# Altium footprint library con-hirose.PCBLIB: 38 footprints (part 3 of 3)
Each footprint in its own frame and in the unit in brackets; x right, y up, seen from the top. Pads: shape width x height; smd on the part's side, far side on the other; paste and mask are expansions set on the pad; w line width, h text height; cw(c..) or ccw(c..) is an arc to the next point about the centre after c.
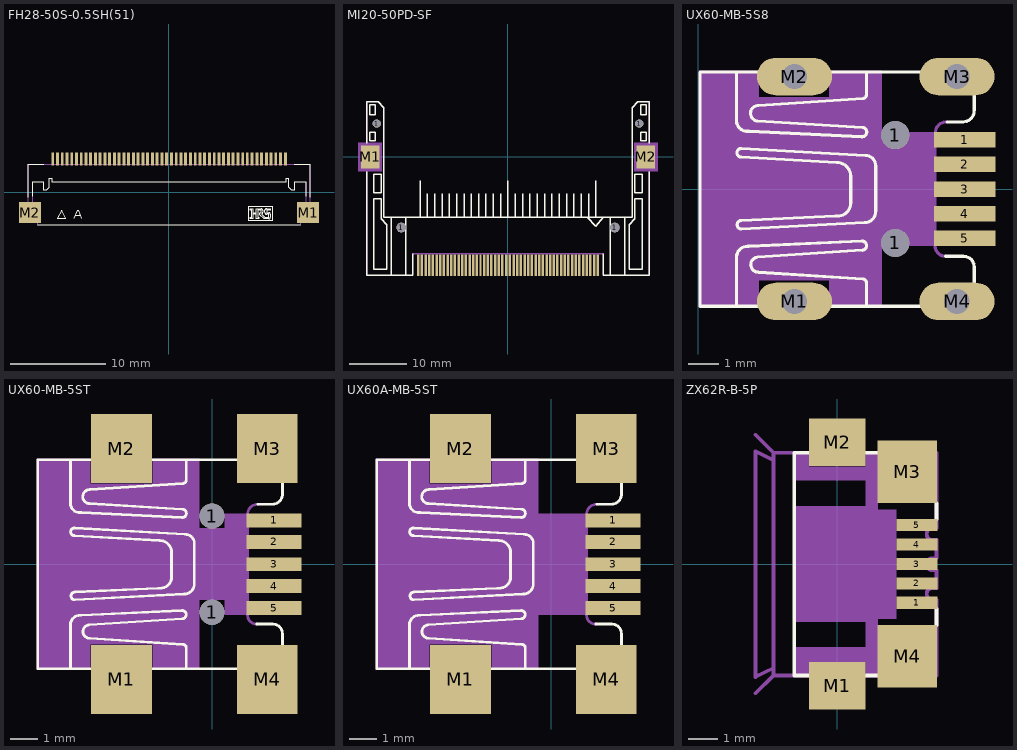
[diagram p2: the footprints below, top view; thin cyan lines are the x and y axes]

## FH28-50S-0.5SH(51) [mil]
pads (52):
  rect 12x52 smd: 1(-482.28,138) 2(-462.6,138) 3(-442.91,138) 4(-423.23,138) 5(-403.54,138) 6(-383.86,138) 7(-364.17,138) 8(-344.49,138) 9(-324.8,138) 10(-305.12,138) 11(-285.43,138) 12(-265.75,138) 13(-246.06,138) 14(-226.38,138) 15(-206.69,138) 16(-187.01,138) 17(-167.32,138) 18(-147.64,138) 19(-127.95,138) 20(-108.27,138) 21(-88.58,138) 22(-68.9,138) 23(-49.21,138) 24(-29.53,138) 25(-9.84,138) 26(10,138) 27(30,138) 28(50,138) 29(69,138) 30(89,138) 31(109,138) 32(128,138) 33(148,138) 34(168,138) 35(188,138) 36(207,138) 37(227,138) 38(247,138) 39(266,138) 40(286,138) 41(306,138) 42(325,138) 43(345,138) 44(365,138) 45(384,138) 46(404,138) 47(424,138) 48(443,138) 49(463,138) 50(483,138)
  rect 91x87 smd: M1(577,-84.65) M2(-576.77,-84.65)
Top Overlay:
  lines w4: -584.3,-20.22 -584.3,117 -519.15,117 ; -568.01,-17.24 -568.01,42 -520.22,42 -520.22,9 -508.28,9 -499.59,18 -499.59,56 -484.38,56 -484.38,42 484,42 484,56 498,56 498,20 509,9 520,9 520,42 569,42 569,-17.24 ; -545.2,-136.98 545,-136.98 ; -392.48,-107.65 -378.36,-73.98 -377.27,-73.98 -363.15,-107.65 ; -387.04,-96.79 -368.58,-96.79 ; 519,117 584,117 584,-20.22 ; -464.16,-108.74 -428.31,-108.74 -445.69,-73.98 -464.16,-108.74 ; 331,-118.52 429,-118.52 429,-58.78 331,-58.78 331,-118.52 ; 338,-110.91 338,-104.39 343,-104.39 343,-73.98 338,-73.98 338,-68.56 348,-68.56 348,-84.85 362,-84.85 362,-68.56 383,-68.56 cw(c382.75,-74.81) 389,-75.07 389,-83.76 cw(c381.2,-83.97) 387,-89.19 cw(c362.19,-67.36) 386,-90.28 385,-91.36 398,-104.39 415,-104.39 415,-91.36 406,-91.36 cw(c405.8,-83.57) 398,-83.76 398,-75.07 cw(c404.75,-75.31) 405,-68.56 421,-68.56 421,-73.98 405,-73.98 405,-84.85 414,-84.85 cw(c414.25,-91.6) 421,-91.36 421,-104.39 cw(c414.24,-104.15) 414,-110.91 396,-110.91 377,-92.45 377,-84.85 383,-84.85 383,-73.98 368,-73.98 368,-104.39 373,-104.39 373,-110.91 362,-110.91 362,-91.36 348,-91.36 348,-110.91 338,-110.91
Top Solder:
  rectangle: -390.75,-26.57 -376.97,27
  rectangle: -371.06,-26.57 -357.28,27
  rectangle: -351.38,-26.57 -337.6,27
  rectangle: -331.69,-26.57 -317.91,27
  rectangle: -312.01,-26.57 -298.23,27
  rectangle: -292.32,-26.57 -278.54,27
  rectangle: -272.64,-26.57 -258.86,27
  rectangle: -252.95,-26.57 -239.17,27
  rectangle: -233.27,-26.57 -219.49,27
  rectangle: -213.58,-26.57 -199.8,27
  rectangle: -193.9,-26.57 -180.12,27
  rectangle: -174.21,-26.57 -160.43,27
  rectangle: -154.53,-26.57 -140.75,27
  rectangle: -134.84,-26.57 -121.06,27
  rectangle: -115.16,-26.57 -101.38,27
  rectangle: -95.47,-26.57 -81.69,27
  rectangle: -75.79,-26.57 -62.01,27
  rectangle: -56.1,-26.57 -42.32,27
  rectangle: -36.42,-26.57 -22.64,27
  rectangle: -16.73,-26.57 -2.95,27
  rectangle: 3,-26.57 17,27
  rectangle: 23,-26.57 37,27
  rectangle: 43,-26.57 57,27
  rectangle: 63,-26.57 76,27
  rectangle: 82,-26.57 96,27
  rectangle: 102,-26.57 116,27
  rectangle: 122,-26.57 135,27
  rectangle: 141,-26.57 155,27
  rectangle: 161,-26.57 175,27
  rectangle: 181,-26.57 194,27
  rectangle: 200,-26.57 214,27
  rectangle: 220,-26.57 234,27
  rectangle: 240,-26.57 253,27
  rectangle: 259,-26.57 273,27
  rectangle: 279,-26.57 293,27
  rectangle: 299,-26.57 313,27
  rectangle: 318,-26.57 332,27
  rectangle: 338,-26.57 352,27
  rectangle: 358,-26.57 372,27
  rectangle: 377,-26.57 391,27
Mechanical 2:
  text ">NAME" at -531.5,-196.85 h77.5
Mechanical 4:
  text ">VALUE" at -118.11,-196.85 h77.5
Mechanical 16:
  region: 487,116 487,144 479,144 479,116
  region: 467,116 467,144 459,144 459,116
  region: 447.5,116.5 447.5,143.5 439.5,143.5 439.5,116.5
  region: 428,116 428,144 420,144 420,116
  region: 408,116 408,144 400,144 400,116
  region: 388.5,116.5 388.5,143.5 380.5,143.5 380.5,116.5
  region: 368.5,116.5 368.5,143.5 360.5,143.5 360.5,116.5
  region: 349,116 349,144 341,144 341,116
  region: 329.5,116.5 329.5,143.5 321.5,143.5 321.5,116.5
  region: 309.5,116.5 309.5,143.5 301.5,143.5 301.5,116.5
  region: 290,116 290,144 282,144 282,116
  region: 270,116 270,144 262,144 262,116
  region: 250.5,116.5 250.5,143.5 242.5,143.5 242.5,116.5
  region: 231,116 231,144 223,144 223,116
  region: 211,116 211,144 203,144 203,116
  region: 191.5,116.5 191.5,143.5 183.5,143.5 183.5,116.5
  region: 172,116 172,144 164,144 164,116
  region: 152,116 152,144 144,144 144,116
  region: 132.5,116.5 132.5,143.5 124.5,143.5 124.5,116.5
  region: 113,116 113,144 105,144 105,116
  region: 93,116 93,144 85,144 85,116
  region: 73.5,116.5 73.5,143.5 65.5,143.5 65.5,116.5
  region: 53.5,116.5 53.5,143.5 45.5,143.5 45.5,116.5
  region: 34,116 34,144 26,144 26,116
  region: 14.03,116.03 14.03,143.97 6.03,143.97 6.03,116.03
  region: -5.81,116.19 -5.81,143.81 -13.81,143.81 -13.81,116.19
  region: -25.53,116.22 -25.53,143.78 -33.53,143.78 -33.53,116.22
  region: -45.21,116.22 -45.21,143.78 -53.21,143.78 -53.21,116.22
  region: -64.9,116.22 -64.9,143.78 -72.9,143.78 -72.9,116.22
  region: -84.58,116.22 -84.58,143.78 -92.58,143.78 -92.58,116.22
  region: -104.27,116.22 -104.27,143.78 -112.27,143.78 -112.27,116.22
  region: -123.95,116.22 -123.95,143.78 -131.95,143.78 -131.95,116.22
  region: -143.64,116.22 -143.64,143.78 -151.64,143.78 -151.64,116.22
  region: -163.32,116.22 -163.32,143.78 -171.32,143.78 -171.32,116.22
  region: -183.01,116.22 -183.01,143.78 -191.01,143.78 -191.01,116.22
  region: -202.69,116.22 -202.69,143.78 -210.69,143.78 -210.69,116.22
  region: -222.38,116.22 -222.38,143.78 -230.38,143.78 -230.38,116.22
  region: -242.06,116.22 -242.06,143.78 -250.06,143.78 -250.06,116.22
  region: -261.75,116.22 -261.75,143.78 -269.75,143.78 -269.75,116.22
  region: -281.43,116.22 -281.43,143.78 -289.43,143.78 -289.43,116.22
  region: -301.12,116.22 -301.12,143.78 -309.12,143.78 -309.12,116.22
  region: -320.8,116.22 -320.8,143.78 -328.8,143.78 -328.8,116.22
  region: -340.49,116.22 -340.49,143.78 -348.49,143.78 -348.49,116.22
  region: -360.17,116.22 -360.17,143.78 -368.17,143.78 -368.17,116.22
  region: -379.86,116.22 -379.86,143.78 -387.86,143.78 -387.86,116.22
  region: -399.54,116.22 -399.54,143.78 -407.54,143.78 -407.54,116.22
  region: -419.23,116.22 -419.23,143.78 -427.23,143.78 -427.23,116.22
  region: -438.91,116.22 -438.91,143.78 -446.91,143.78 -446.91,116.22
  region: -458.6,116.22 -458.6,143.78 -466.6,143.78 -466.6,116.22
  region: -478.28,116.22 -478.28,143.78 -486.28,143.78 -486.28,116.22
  lines w4: -568.01,42 -568.01,-56.61 -547.37,-56.61 ; -546.29,-105.48 -577.78,-105.48 cw(c-577.78,-98.96) -584.3,-98.96 -584.3,117 584,117 584,-98.96 cw(c577.24,-98.72) 577,-105.48 545,-105.48 ; -545.2,-136.98 -545.2,-42.49 ; 545,-136.98 545,-105.48 ; 545,-42.49 545,-56.6 ; 569,42 569,-56.61 545,-56.6 ; 545,-105.48 545,-56.6

## MI20-50PD-SF [mil]
pads (56):
  round 56 hole 56: 1(-895.67,227) 1(896,227)
  round 66 hole 66: 1(-728.35,-482.28) 1(729,-482.28)
  rect 17x148 smd: 1(613,-739.37) 2(563,-739.37) 3(513,-739.37) 4(463,-739.37) 5(413,-739.37) 6(363,-739.37) 7(313,-739.37) 8(263,-739.37) 9(213,-739.37) 10(163,-739.37) 11(113,-739.37) 12(63,-739.37) 13(13,-739.37) 14(-37.5,-739.37) 15(-87.5,-739.37) 16(-137.5,-739.37) 17(-187.5,-739.37) 18(-237.5,-739.37) 19(-287.5,-739.37) 20(-337.5,-739.37) 21(-387.5,-739.37) 22(-437.5,-739.37) 23(-487.5,-739.37) 24(-537.5,-739.37) 25(-587.5,-739.37) 26(588,-739.37) 27(538,-739.37) 28(488,-739.37) 29(438,-739.37) 30(388,-739.37) 31(338,-739.37) 32(288,-739.37) 33(238,-739.37) 34(188,-739.37) 35(138,-739.37) 36(88,-739.37) 37(38,-739.37) 38(-12.5,-739.37) 39(-62.5,-739.37) 40(-112.5,-739.37) 41(-162.5,-739.37) 42(-212.5,-739.37) 43(-262.5,-739.37) 44(-312.5,-739.37) 45(-362.5,-739.37) 46(-412.5,-739.37) 47(-462.5,-739.37) 48(-512.5,-739.37) 49(-562.5,-739.37) 50(-612.5,-739.37)
  rect 126x158 smd: M1(-940.26,-0.2) M2(941,-0.2)
Top Overlay:
  lines w10: -964.57,-100.98 -964.57,-807.09 -797.24,-807.09 ; -964.57,93 -964.57,375 -885.83,375 -846.46,335 -846.46,-413.39 -797.24,-413.39 ; -649.61,-659.45 -649.61,-807.09 -698.82,-807.09 ; -600,-414.37 -600,-164.37 ; -550,-414.37 -550,-251.87 ; -500,-414.37 -500,-251.87 ; -450,-414.37 -450,-251.87 ; -400,-414.37 -400,-251.87 ; -350,-414.37 -350,-251.87 ; -300,-414.37 -300,-251.87 ; -250,-414.37 -250,-251.87 ; -200,-414.37 -200,-251.87 ; -150,-414.37 -150,-251.87 ; -100,-414.37 -100,-251.87 ; -50,-414.37 -50,-251.87 ; 0,-414.37 0,-164.37 ; 50,-414.37 50,-251.87 ; 100,-414.37 100,-251.87 ; 150,-414.37 150,-251.87 ; 200,-414.37 200,-251.87 ; 250,-414.37 250,-251.87 ; 300,-414.37 300,-251.87 ; 350,-414.37 350,-251.87 ; 400,-414.37 400,-251.87 ; 450,-414.37 450,-251.87 ; 500,-414.37 500,-251.87 ; 541,-412.5 600,-472.34 650,-412.5 ; 550,-414.37 550,-251.87 ; 600,-414.37 600,-164.37 ; 650,-659.45 650,-807.09 699,-807.09 ; 965,-100.98 965,-807.09 798,-807.09 ; 965,93 965,375 886,375 847,335 847,-413.39 798,-413.39 ; -797.24,-807.09 -698.82,-807.09 ; -797.24,-807.09 -797.24,-413.39 ; -797.24,-413.39 -698.82,-413.39 ; -698.82,-807.09 -698.82,-413.39 ; -698.82,-413.39 699,-413.39 ; 699,-807.09 798,-807.09 ; 699,-807.09 699,-413.39 ; 699,-413.39 798,-413.39 ; 798,-807.09 798,-413.39 ; -944.88,109 -905.51,109 -905.51,168 -944.88,168 -944.88,109 ; -944.88,286 -905.51,286 -905.51,355 -944.88,355 -944.88,286 ; -915.35,-767.72 -826.77,-767.72 -826.77,-462.6 -866.14,-423.23 -866.14,-285.43 -915.35,-285.43 -915.35,-767.72 ; -915.35,-246.06 -866.14,-246.06 -866.14,-118.11 -915.35,-118.11 -915.35,-246.06 ; 827,-767.72 827,-462.6 867,-423.23 867,-285.43 916,-285.43 916,-767.72 827,-767.72 ; 867,-246.06 916,-246.06 916,-118.11 867,-118.11 867,-246.06 ; 906,109 906,168 945,168 945,109 906,109 ; 906,286 945,286 945,355 906,355 906,286
Top Solder:
  rectangle: -1016.78,-87.5 -866.78,88
  rectangle: 869,-87.5 1013,88
Mechanical 2:
  text ">NAME" at -150,-100 h108.5
Mechanical 4:
  text ">VALUE" at -600,-550 h108.5
Mechanical 8:
  rectangle: -1023.62,-98.43 -858.27,99
  rectangle: 859,-98.43 1024,99
Mechanical 13:
  text "MI20-50PD-SF" at -226.38,-561.02 h77.5
Mechanical 16:
  lines w10: -964.57,-807.09 -964.57,375 ; -649.61,-659.45 650,-659.45 ; 965,-807.09 965,375
Mechanical 27:
  rectangle: -1023.62,-98.43 -858.27,99
  rectangle: 859,-98.43 1024,99

## UX60-MB-5S8 [mil]
pads (11):
  round 36 hole 36: 1(252,-68.9) 1(252,69)
  rect 79x20 smd: 1(341,63) 2(341,32) 3(341,0) 4(341,-31.5) 5(341,-62.99)
  oval 96x48 hole 32: M1(123,-143.7) M2(123,144) M3(331,144) M4(331,-143.7)
Top Overlay:
  lines w4: 49,-147.65 49,-86.94 cw(c62.9,-87.05) 63,-73.14 65,-73.14 209,-66.52 cw(c209.49,-72.32) 210,-78.11 76,-86.94 ccw(c76.86,-96.58) 77,-106.26 211,-115.09 cw(c210.48,-119.6) 215,-120.06 215,-147.65 ; 49,148 49,87 ccw(c62.5,87.5) 63,74 65,74 209,67 ccw(c209.49,73) 210,79 76,87 cw(c76.88,96.98) 77,107 211,116 ccw(c210.46,120.53) 215,121 215,148 ; 316,-85.83 339,-85.83 cw(c339.1,-99.73) 353,-99.63 353,-149.86 2,-149.86 2,150 353,150 353,101 cw(c338.5,100.5) 339,86 318,86 ; 55,-51.06 cw(c55.26,-45.55) 55,-40.03 175,-34.51 178,-34.51 ccw(c178.22,-17.73) 195,-17.95 195,17 ccw(c177.5,16.5) 177,34 55,41 cw(c55,46.5) 55,52 214,43 cw(c214,30) 227,30 227,-28.44 cw(c212.82,-28.61) 213,-42.79 55,-51.06
Mechanical 2:
  text ">NAME" at 450,-100 h77.5
Mechanical 4:
  text ">VALUE" at 50,-225 h77.5
Mechanical 8:
  rectangle: 0,-151.57 78,152
  rectangle: 167,-151.57 235,152
  rectangle: 78,-115.16 167,116
  rectangle: 235,-72.83 301,73
Mechanical 11:
  lines w0: 87,-143.7 ccw(c102.87,-143.57) 103,-159.45 142,-159.45 ccw(c142.13,-143.57) 158,-143.7 ccw(c142.13,-143.83) 142,-127.95 103,-127.95 ccw(c102.87,-143.83) 87,-143.7 ; 87,144 ccw(c103,144) 103,128 142,128 ccw(c142,144) 158,144 ccw(c142,144) 142,160 103,160 ccw(c103,144) 87,144 ; 296,-143.7 ccw(c311.87,-143.57) 312,-159.45 351,-159.45 ccw(c351.13,-143.57) 367,-143.7 ccw(c351.13,-143.83) 351,-127.95 312,-127.95 ccw(c311.87,-143.83) 296,-143.7 ; 296,144 ccw(c312,144) 312,128 351,128 ccw(c351,144) 367,144 ccw(c351,144) 351,160 312,160 ccw(c312,144) 296,144
Mechanical 16:
  rectangle: 304,57 355,70
  rectangle: 304,26 355,39
  rectangle: 304,-6.36 355,7
  rectangle: 304,-37.82 355,-24.57
  rectangle: 304,-69.28 355,-56.03
  lines w4: 316,-85.83 cw(c315.85,-72.99) 303,-73.14 303,72 cw(c317.5,71.5) 318,86
Mechanical 27:
  rectangle: 0,-151.57 70,152
  rectangle: 70,-117.13 175,118
  rectangle: 175,-151.57 235,152
  rectangle: 270,-72.83 301,73
  rectangle: 235,-51.18 270,52

## UX60-MB-5ST [mil]
pads (11):
  round 36 hole 36: 1(0,-68.9) 1(0,69)
  rect 79x20 smd: 1(89,63) 2(89,32) 3(89,0) 4(89,-31.5) 5(89,-62.99)
  rect 87x99 smd: M1(-129.92,-165.35) M2(-129.92,166) M3(79,166) M4(79,-165.35)
Top Overlay:
  lines w4: -203.12,-147.65 -203.12,-86.94 cw(c-189.31,-86.94) -189.32,-73.14 -187.67,-73.14 -43.06,-66.52 cw(c-42.8,-72.32) -42.51,-78.11 -176.07,-86.94 ccw(c-175.44,-96.59) -175.52,-106.26 -41.41,-115.09 cw(c-41.72,-119.81) -36.99,-120.06 -36.99,-147.65 ; -203.12,148 -203.12,87 ccw(c-189.73,87.4) -189.32,74 -187.67,74 -43.06,67 ccw(c-42.8,73) -42.51,79 -176.08,87 cw(c-175.43,96.99) -175.53,107 -41.41,116 ccw(c-41.74,120.74) -36.99,121 -36.99,148 ; -151.8,-152.07 -151.8,-186.29 ccw(c-145.17,-186.29) -145.17,-192.91 ccw(c-145.17,-186.84) -139.1,-186.84 -139.1,-180.22 cw(c-130.27,-180.22) -130.27,-171.39 -129.17,-171.39 cw(c-129.16,-180.21) -120.33,-180.22 -120.33,-186.29 ccw(c-113.71,-186.29) -113.71,-192.91 ; -151.79,150 -151.79,187 cw(c-145.78,186.98) -145.72,193 ; -107.64,153 -107.64,187 ccw(c-113.95,186.69) -114.26,193 ccw(c-114.3,186.96) -120.33,187 -120.33,181 cw(c-129.24,180.91) -129.16,172 -130.27,172 cw(c-130.19,180.91) -139.1,181 -139.1,187 ccw(c-145.41,186.69) -145.72,193 ; 57,-152.07 57,-186.29 ccw(c63.31,-186.6) 63,-192.91 ccw(c62.96,-186.87) 69,-186.84 69,-180.22 cw(c77.92,-180.3) 78,-171.39 79,-171.39 cw(c79.1,-180.29) 88,-180.22 88,-186.29 ccw(c94.81,-186.1) 95,-192.91 ; 57,150 57,187 cw(c62.98,187.02) 63,193 ; 64,-85.83 87,-85.83 cw(c87.1,-99.73) 101,-99.63 101,-149.86 ; 66,86 87,86 ccw(c86.5,100.5) 101,101 101,150 ; -145.72,193 -145.72,193 ; -113.72,-192.91 ccw(c-113.69,-186.86) -107.64,-186.84 -107.64,-149.86 ; -113.72,-192.91 -113.71,-192.91 ; -107.64,-149.86 101,-149.86 ; -107.64,-149.86 -250.04,-149.86 -250.04,150 101,150 ; 63,193 63,193 ; 63,193 cw(c63,187) 69,187 69,181 ccw(c78,181) 78,172 79,172 ccw(c79,181) 88,181 88,187 cw(c94,187) 94,193 cw(c94.5,186.5) 101,187 101,150 ; 95,-192.91 ccw(c94.99,-186.9) 101,-186.84 101,-149.86 ; 95,-192.91 95,-192.91 ; -197.6,41 cw(c-197.33,46.5) -197.05,52 -38.65,43 cw(c-38.53,29.87) -25.4,30 -25.4,-28.44 cw(c-39.75,-28.44) -39.75,-42.79 -197.05,-51.06 cw(c-196.8,-45.55) -197.05,-40.03 -77.28,-34.51 -74.52,-34.51 ccw(c-74.52,-17.95) -57.96,-17.95 -57.96,17 ccw(c-75.02,16.94) -75.07,34 -197.6,41
Mechanical 2:
  text ">NAME" at 200,-150 h77.5
Mechanical 4:
  text ">VALUE" at -175,-275 h77.5
Mechanical 8:
  rectangle: -251.97,-151.57 -174.21,152
  rectangle: -85.63,-151.57 -17.72,152
  rectangle: -174.21,-115.16 -85.63,116
  rectangle: 18,-72.83 49,73
  rectangle: -17.72,-51.18 18,52
Mechanical 16:
  rectangle: 52,57 103,70
  rectangle: 52,26 103,39
  rectangle: 52,-6.36 103,7
  rectangle: 52,-37.82 103,-24.57
  rectangle: 52,-69.28 103,-56.03
  lines w4: 64,-85.83 cw(c63.85,-72.99) 51,-73.14 51,72 cw(c65.5,71.5) 66,86

## UX60A-MB-5ST [mil]
pads (9):
  rect 79x20 smd: 1(89,63) 2(89,32) 3(89,0) 4(89,-31.5) 5(89,-62.99)
  rect 87x99 smd: M1(-129.92,-165.35) M2(-129.92,166) M3(79,166) M4(79,-165.35)
Top Overlay:
  lines w4: -203.12,-147.65 -203.12,-86.94 cw(c-189.31,-86.94) -189.32,-73.14 -187.67,-73.14 -43.06,-66.52 cw(c-42.8,-72.32) -42.51,-78.11 -176.07,-86.94 ccw(c-175.44,-96.59) -175.52,-106.26 -41.41,-115.09 cw(c-41.72,-119.81) -36.99,-120.06 -36.99,-147.65 ; -203.12,148 -203.12,87 ccw(c-189.73,87.4) -189.32,74 -187.67,74 -43.06,67 ccw(c-42.8,73) -42.51,79 -176.08,87 cw(c-175.43,96.99) -175.53,107 -41.41,116 ccw(c-41.74,120.74) -36.99,121 -36.99,148 ; -151.8,-152.07 -151.8,-186.29 ccw(c-145.17,-186.29) -145.17,-192.91 ccw(c-145.17,-186.84) -139.1,-186.84 -139.1,-180.22 cw(c-130.28,-180.21) -130.27,-171.39 -129.17,-171.39 cw(c-129.15,-180.2) -120.33,-180.22 -120.33,-186.29 ccw(c-113.71,-186.29) -113.71,-192.91 ; -151.79,150 -151.79,187 cw(c-145.78,186.99) -145.72,193 ; -107.64,153 -107.64,187 ccw(c-113.95,186.69) -114.26,193 ccw(c-114.3,186.96) -120.33,187 -120.33,181 cw(c-129.24,180.91) -129.16,172 -130.27,172 cw(c-130.19,180.91) -139.1,181 -139.1,187 ccw(c-145.41,186.69) -145.72,193 ; 57,-152.07 57,-186.29 ccw(c63.31,-186.6) 63,-192.91 ccw(c62.96,-186.87) 69,-186.84 69,-180.22 cw(c77.92,-180.3) 78,-171.39 79,-171.39 cw(c79.1,-180.29) 88,-180.22 88,-186.29 ccw(c94.81,-186.1) 95,-192.91 ; 57,150 57,187 cw(c62.98,187.02) 63,193 ; 64,-85.83 87,-85.83 cw(c87.1,-99.73) 101,-99.63 101,-149.86 ; 66,86 87,86 ccw(c86.5,100.5) 101,101 101,150 ; -145.72,193 -145.72,193 ; -113.72,-192.91 ccw(c-113.69,-186.86) -107.64,-186.84 -107.64,-149.86 ; -113.72,-192.91 -113.71,-192.91 ; -107.64,-149.86 101,-149.86 ; -107.64,-149.86 -250.04,-149.86 -250.04,150 101,150 ; 63,193 63,193 ; 63,193 cw(c63,187) 69,187 69,181 ccw(c78,181) 78,172 79,172 ccw(c79,181) 88,181 88,187 cw(c94,187) 94,193 cw(c94.5,186.5) 101,187 101,150 ; 95,-192.91 ccw(c94.99,-186.9) 101,-186.84 101,-149.86 ; 95,-192.91 95,-192.91 ; -197.6,41 cw(c-197.33,46.5) -197.05,52 -38.65,43 cw(c-38.53,29.87) -25.4,30 -25.4,-28.44 cw(c-39.75,-28.44) -39.75,-42.79 -197.05,-51.06 cw(c-196.8,-45.55) -197.05,-40.03 -77.28,-34.51 -74.52,-34.51 ccw(c-74.52,-17.95) -57.96,-17.95 -57.96,17 ccw(c-75.02,16.94) -75.07,34 -197.6,41
Mechanical 2:
  text ">NAME" at 200,-175 h77.5
Mechanical 4:
  text ">VALUE" at -175,-275 h77.5
Mechanical 8:
  rectangle: -251.97,-151.57 -174.21,152
  rectangle: -85.63,-151.57 -17.72,152
  rectangle: -174.21,-115.16 -85.63,116
  rectangle: -17.72,-72.83 49,73
Mechanical 16:
  rectangle: 52,57 103,70
  rectangle: 52,26 103,39
  rectangle: 52,-6.36 103,7
  rectangle: 52,-37.82 103,-24.57
  rectangle: 52,-69.28 103,-56.03
  lines w4: 64,-85.83 cw(c63.85,-72.99) 51,-73.14 51,72 cw(c65.5,71.5) 66,86

## ZX62R-B-5P [mil]
pads (9):
  rect 54x16 smd: 1(106,-51.18) 2(106,-25.59) 3(106,0) 4(106,26) 5(106,52)
  rect 75x63 smd: M1(0,-161.42) M2(0,162)
  rect 79x83 smd: M3(93,123) M4(93,-122.05)
Top Overlay:
  lines w5: -37.4,-147.64 -57.09,-147.64 -57.09,148 -37.4,148 ; 38,-147.64 54,-147.64 ; 38,148 54,148 ; 132,-80.71 132,-59.06 ; 132,60 132,81
Mechanical 2:
  text ">NAME" at 200,-175 h77.5
Mechanical 4:
  text ">VALUE" at 275,-175 h77.5
Mechanical 8:
  rectangle: 54,-72.83 79,73
  rectangle: 38,-147.64 54,148
  rectangle: -37.4,111 38,130
  rectangle: -37.4,-129.92 38,-110.24
  rectangle: -57.09,111 -37.4,148
  rectangle: -57.09,-147.64 -37.4,-110.24
  rectangle: -57.09,-76.77 38,77
Mechanical 16:
  lines w4: -31.5,-147.64 -31.5,-177.17 ccw(c-23.62,-177.17) -23.62,-185.04 ccw(c-23.62,-177.17) -15.75,-177.17 -15.75,-169.29 cw(c-7.87,-169.29) -7.87,-161.42 8,-161.42 cw(c8.06,-169.35) 16,-169.29 16,-177.17 ccw(c23.94,-177.1) 24,-185.04 ccw(c24.06,-177.1) 32,-177.17 32,-147.64 ; -31.5,148 -31.5,178 cw(c-23.56,178.06) -23.62,186 cw(c-23.68,178.06) -15.75,178 -15.75,170 ccw(c-7.81,169.94) -7.87,162 8,162 ccw(c8,170) 16,170 16,178 cw(c24,178) 24,186 cw(c24,178) 32,178 32,148
  lines w5: -108.27,-171.26 -84.65,-147.64 ; -108.27,172 -84.65,148 ; -84.65,-147.64 -84.65,-137.8 ; -84.65,-147.64 32,-147.64 132,-147.64 132,-47.24 126,-47.24 cw(c126.44,-39.8) 119,-39.37 cw(c126.44,-38.94) 126,-31.5 132,-31.5 132,-7.87 126,-7.87 cw(c126.44,-0.43) 119,0 cw(c126.5,0.5) 126,8 132,8 132,32 126,32 cw(c126.5,39.5) 119,40 cw(c126.5,40.5) 126,48 132,48 132,148 -84.65,148 ; -84.65,-137.8 -84.65,138 ; -84.65,-137.8 -108.27,-149.61 -108.27,150 -84.65,138 ; -84.65,138 -84.65,148